# EAGLE library part SN74LVC1G315 (library dviid)
This single-pole, double-throw (SPDT) analog switch is designed for 1.65-V to 5.5-V V CC operation. The SN74LVC1G3157 can handle both analog and digital signals. The device permits signals with amplitudes of up to V CC (peak) to be transmitted in either direction. Applications include signal gating, chopping, modulation or demodulation (modem), and signal multiplexing for analog-to-digital and digital-to-analog conversion systems.
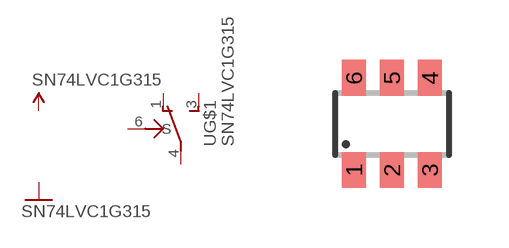
[diagram p17: symbol with the pads of SOT23-6; footprint SOT23-6]

Designator prefix -; gates G$1=SWITCH-SPDT G$2=VCC2 G$3=GND

## SN74LVC1G315DBV  [SOT23-6]
1  G$1:INA  pas
2  G$3:GND  sup
3  G$1:INB  pas
4  G$1:OUT  pas
5  G$2:VCC  sup
6  G$1:S  pas

## Footprint SOT23-6 (pad centres in mm)
Small Outline Transistor 6 lead
smd 0.6 x 0.9: 1 -0.95,-1.15; 2 0,-1.15; 3 0.95,-1.15; 4 0.95,1.15; 5 0,1.15; 6 -0.95,1.15